# EAGLE library part LTC3531 (library exported-lbrlinear-sen)
200mA Buck-Boost Synchronous DC/DC Converter
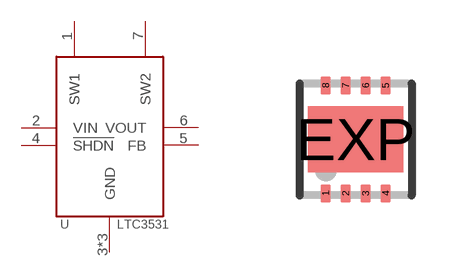
[diagram p0: symbol with the pads of DFN8-3X3; footprint DFN8-3X3]

Designator prefix U

## LTC3531  [DFN8-3X3]
1  SW1
2  VIN
3  GND
4  !SHDN
5  FB
6  VOUT
7  SW2
8  GND
EXP  GND

## Footprint DFN8-3X3 (pad centres in mm)
DD Package 8-Lead Plastic DFN (3mm × 3mm) Source: http://cds.linear.com/docs/Datasheet/623012fb.pdf
smd 0.25 x 0.45: 1 -0.75,-1.35; 2 -0.25,-1.35; 3 0.25,-1.35; 4 0.75,-1.35; 5 0.75,1.35; 6 0.25,1.35; 7 -0.25,1.35; 8 -0.75,1.35
smd 2.38 x 1.65: EXP 0,0